# EAGLE library part POLOLU-A4983 (library boscoverysat)
The A4983 stepper motor driver carrier is a breakout board for Allegro’s easy-to-use A4983 microstepping bipolar stepper motor driver. The driver features adjustable current limiting and five different microstep resolutions. It operates from 8 – 35 V and can deliver up to 2 A per coil.
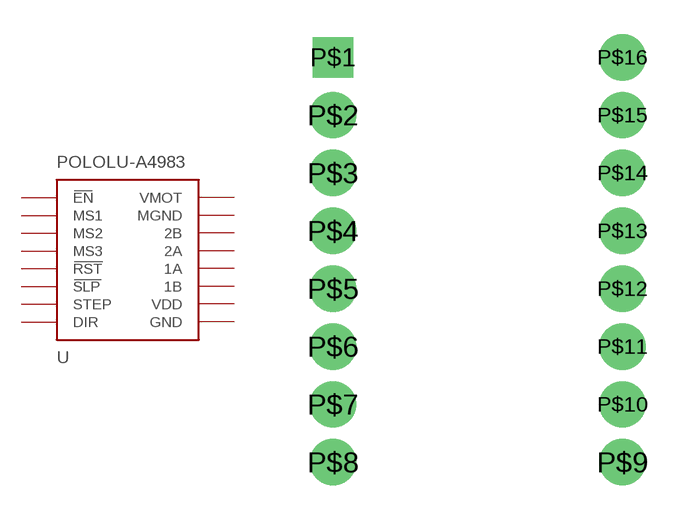
[diagram p0: symbol with the pads of POLOLU-A4983; footprint POLOLU-A4983]

Designator prefix -

## POLOLU-A4983A  [POLOLU-A4983]
P$1  EN
P$2  MS1
P$3  MS2
P$4  MS3
P$5  RST
P$6  SLP
P$7  STEP
P$8  DIR
P$9  GND
P$10  VDD
P$11  1B
P$12  1A
P$13  2A
P$14  2B
P$15  MGND
P$16  VMOT

## Footprint POLOLU-A4983 (pad centres in mm)
drill 0.254 pad 1.778 square: P$1 -6.35,8.89
drill 0.254 pad 2.032: P$2 -6.35,6.35; P$3 -6.35,3.81; P$4 -6.35,1.27; P$5 -6.35,-1.27; P$6 -6.35,-3.81; P$7 -6.35,-6.35; P$8 -6.35,-8.89; P$9 6.35,-8.89; P$10 6.35,-6.35; P$11 6.35,-3.81; P$12 6.35,-1.27; P$13 6.35,1.27; P$14 6.35,3.81; P$15 6.35,6.35; P$16 6.35,8.89